# Altium schematic symbol library AWHSH105D00G.SchLib: 1 symbol
Pins are listed as number, name and electrical type; pins without a type are passive.

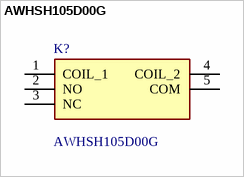
[diagram p0: symbol AWHSH105D00G]

## AWHSH105D00G
designator K?
General Purpose Relays Commercial RelayRated Carrying Current :15AType of Sealing : Sealed and Waterproof TypeNumber of pole : one poleCoil Voltage : 5VCoil Type : Standard DC CoilContact Form : Form C; Manufacturer_Name: Amphenol; Geometry.Height: 15.3mm; Mouser Part Number: 523-AWHSH105D00G; Mouser Price/Stock: https://www.mouser.co.uk/ProductDetail/Amphenol-Anytek/AWHSH105D00G?qs=rSMjJ%252B1ewcT7jFUGTuCYSw%3D%3D; Manufacturer_Part_Number: AWHSH105D00G; Datasheet Link: https://g.componentsearchengine.com/Datasheets/0/17861032.pdf
footprint AWHSH105D00G
pins: 1 COIL_1, 2 NO, 3 NC, 4 COIL_2, 5 COM